# Altium footprint library TSOP-28_1.PcbLib: 1 footprints
Each footprint in its own frame and in the unit in brackets; x right, y up, seen from the top. Pads: shape width x height; smd on the part's side, far side on the other; paste and mask are expansions set on the pad; w line width, h text height; cw(c..) or ccw(c..) is an arc to the next point about the centre after c.
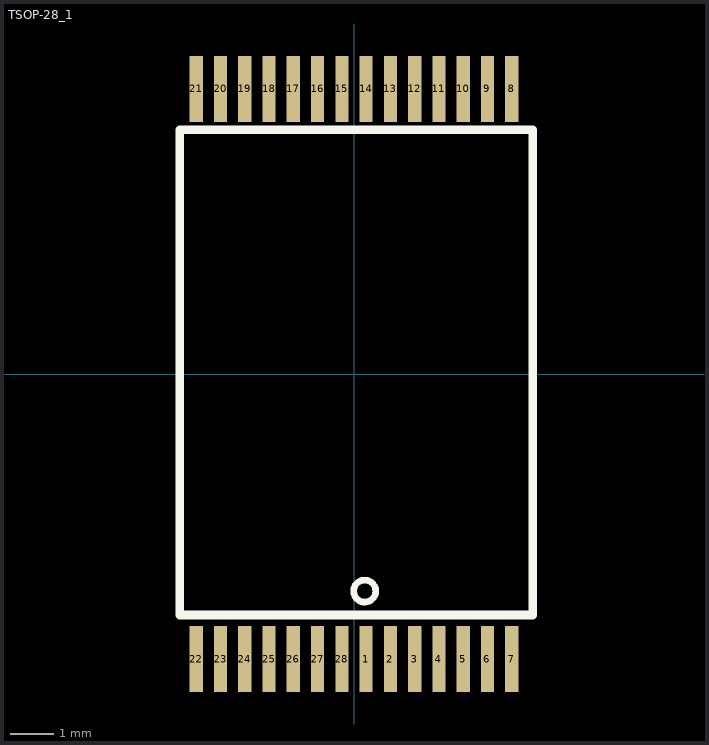
[diagram p0: the footprint, top view; thin cyan lines are the x and y axes]

## TSOP-28_1 [mil]
pads (28):
  rect 12x60 smd: 1(11,-258.5) 2(33,-258.5) 3(55,-258.5) 4(77,-258.5) 5(99,-258.5) 6(121,-258.5) 7(143,-258.5) 8(143,258.5) 9(121,258.5) 10(99,258.5) 11(77,258.5) 12(55,258.5) 13(33,258.5) 14(11,258.5) 15(-11,258.5) 16(-33,258.5) 17(-55,258.5) 18(-77,258.5) 19(-99,258.5) 20(-121,258.5) 21(-143,258.5) 22(-143,-258.5) 23(-121,-258.5) 24(-99,-258.5) 25(-77,-258.5) 26(-55,-258.5) 27(-33,-258.5) 28(-11,-258.5)
TopOverlay:
  circle w6: c9.69,-196.85 r10
  lines w8: -158,-218.5 -158,221.5 162,221.5 162,-218.5 -158,-218.5
3D body: height 43.31, standoff 0, extent -157.98,-218.48 161.98,221.48